# Altium footprint library RUMBA_V21.PcbLib: 41 footprints (part 2 of 3)
Each footprint in its own frame and in the unit in brackets; x right, y up, seen from the top. Pads: shape width x height; smd on the part's side, far side on the other; paste and mask are expansions set on the pad; w line width, h text height; cw(c..) or ccw(c..) is an arc to the next point about the centre after c.
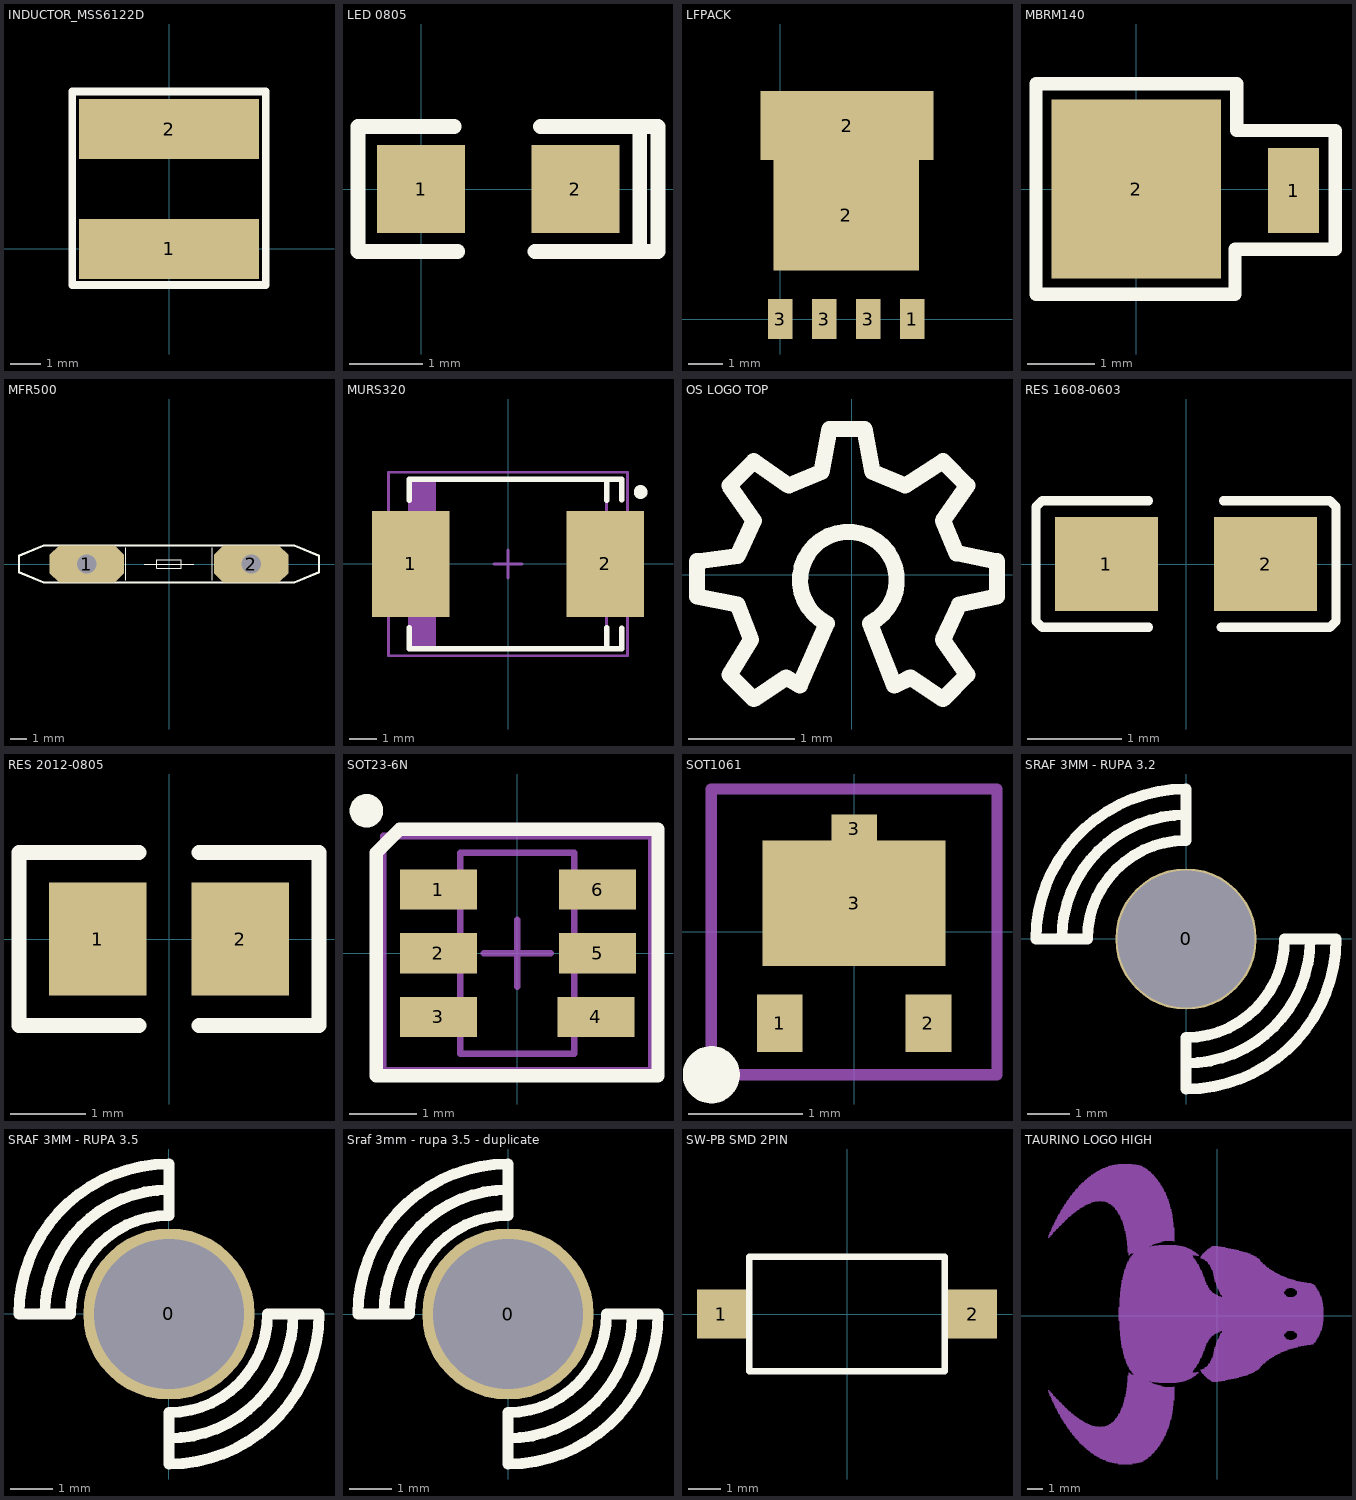
[diagram p1: the footprints below, top view; thin cyan lines are the x and y axes]

## INDUCTOR_MSS6122D [mm]
pads (2):
  rect 6x2 smd: 1(0,0) 2(0,4)
Top Overlay:
  lines w0.254: -3.225,-1.2 -3.225,5.25 3.225,5.25 3.225,-1.2 -3.225,-1.2

## LED 0805 [mm]
pads (2):
  rect 1.2x1.2 smd: 1(0,0) 2(2.1,0)
Top Overlay:
  lines w0.2: 0.45,0.85 -0.86,0.85 -0.86,-0.85 0.5,-0.85 ; 1.55,-0.85 3.225,-0.85 3.225,0.85 1.625,0.85 ; 2.975,-0.85 2.975,0.85
3D body "LED0603red.STEP": height 0.65, standoff 0, extent 0.175,-0.4 1.875,0.4

## LFPACK [mm]
pads (6):
  rect 0.7x1.15 smd: 1(3.81,0) 3(0,0) 3(1.27,0) 3(2.54,0)
  rect 4.2x3.2 smd: 2(1.905,3)
  rect 5x2 smd: 2(1.93,5.588)
3D body "lfpak.STEP": height 1.1, standoff -0.01, extent -0.58,-0.332 4.42,6.137

## MBRM140 [mm]
pads (2):
  rect 0.762x1.27 smd: 1(2.351,-0.025)
  rect 2.54x2.67 smd: 2(0,0)
Top Overlay:
  lines w0.2: -1.5,-1.575 -1.5,1.575 1.5,1.575 1.5,0.875 2.975,0.875 2.975,-0.9 1.475,-0.9 1.475,-1.575 -1.5,-1.575

## MFR500 [mm]
pads (2):
  oct 4.6x2.3 hole 1.2: 1(-5.08,0) 2(5.08,0)
Top Overlay:
  lines w0.051: -2.667,-1.016 -2.667,1.016 ; -1.524,0 1.524,0 ; 2.667,-1.016 2.667,1.016 ; -0.762,-0.254 0.762,-0.254 0.762,0.254 -0.762,0.254 -0.762,-0.254
  lines w0.152: -9.271,-0.508 -7.747,-1.143 7.747,-1.143 9.271,-0.508 9.271,0.508 7.747,1.143 -7.747,1.143 -9.271,0.508 -9.271,-0.508

## MURS320 [mm]
pads (2):
  rect 2.8x3.8 smd: 1(-3.5,0) 2(3.5,0)
Top Overlay:
  circle w0.25: c4.777,2.591 r0.125
  lines w0.2: -3.55,-2.3 -3.55,-3.05 3.55,-3.05 ; -3.55,2.3 -3.55,3.05 3.55,3.05 ; 3.55,-2.3 3.55,-3.05 ; 3.55,2.3 3.55,3.05 ; 4.087,-2.313 4.087,-3.05 3.55,-3.05 ; 4.087,3.05 3.55,3.05 ; 4.089,2.311 4.089,3.048
Mechanical 13:
  rectangle: -3.55,-3.05 -2.595,3.05
  lines w0.1: -3.55,-3.05 3.55,-3.05 3.55,3.05 -3.55,3.05 -3.55,-3.05
Mechanical 15:
  lines w0.1: -0.5,0 0.5,0 ; 0,-0.5 0,0.5 ; -4.3,-3.3 4.3,-3.3 4.3,3.3 -4.3,3.3 -4.3,-3.3
3D body: height 2.13, standoff 0, extent -3.55,-3.05 3.55,3.05

## OS LOGO TOP [mm]
Top Overlay:
  lines w0.152: -1.452,-0.203 -1.452,0.127 -1.071,0.178 -0.919,0.508 -1.147,0.838 -0.919,1.067 -0.589,0.838 -0.284,0.965 -0.208,1.372 0.123,1.372 0.199,0.965 0.504,0.838 0.859,1.067 1.088,0.838 0.859,0.508 0.986,0.203 1.367,0.127 1.367,-0.203 1.012,-0.279 0.859,-0.61 1.088,-0.94 0.859,-1.168 0.554,-0.965 0.402,-1.041 0.173,-0.457 ccw(c-0.03,-0.051) -0.233,-0.457 -0.487,-1.041 -0.614,-0.965 -0.919,-1.168 -1.147,-0.94 -0.944,-0.61 -1.071,-0.279 -1.452,-0.203

## RES 1608-0603 [mm]
pads (2):
  rect 1.1x1 smd: 1(-0.85,0) 2(0.85,0)
Top Overlay:
  lines w0.1: -0.4,-0.675 -1.535,-0.675 -1.6,-0.61 -1.6,0.61 -1.535,0.675 -0.4,0.675 ; 0.375,-0.675 1.535,-0.675 1.6,-0.61 1.6,0.61 1.535,0.675 0.4,0.675
3D body "res0603.STEP": height 0.4, standoff 0, extent -0.775,-0.375 0.825,0.425

## RES 2012-0805 [mm]
pads (2):
  rect 1.3x1.5 smd: 1(-0.95,0) 2(0.95,0)
Top Overlay:
  lines w0.2: -0.4,-1.15 -2,-1.15 -2,1.15 -0.4,1.15 ; 0.4,-1.15 2,-1.15 2,1.15 0.4,1.15
3D body "res0805.STEP": height 1.5, standoff 0, extent -1,-0.625 1,0.625

## SOT23-6N [mm]
pads (6):
  rect 1.15x0.6 smd: 1(-1.175,0.95) 2(-1.175,0) 3(-1.175,-0.95) 4(1.175,-0.95) 5(1.2,0) 6(1.2,0.95)
Top Overlay:
  circle w0.25: c-2.25,2.125 r0.125
  lines w0.2: -2.1,-1.825 -2.1,0.3 -2.1,1.5 -1.75,1.85 -0.75,1.85 2.1,1.85 2.1,-1.825 -2.1,-1.825
Mechanical 13:
  lines w0.1: -0.85,-1.5 -0.85,1.5 0.85,1.5 0.85,-1.5 -0.85,-1.5
Mechanical 15:
  lines w0.1: -0.5,0 0.5,0 ; 0,-0.5 0,0.5 ; -2,-1.75 -2,1.75 2,1.75 2,-1.75 -2,-1.75
3D body "SOT23-6.STEP": height 1.44, standoff -0.01, extent -1.4,-1.45 1.4,1.45

## SOT1061 [mm]
height 0.65
pads (4):
  rect 0.4x0.5 smd: 1(-0.65,-0.8) 2(0.65,-0.8)
  rect 1.6x1.1 smd: 3(0,0.25)
  rect 0.4x0.25 smd: 3(0,0.9)
Top Overlay:
  circle w0.25: c-1.25,-1.25 r0.125
Mechanical 15:
  lines w0.1: -1.25,-1.25 1.25,-1.25 1.25,1.25 -1.25,1.25 -1.25,-1.25
3D body "User Library-SOT1061.step": height 0.65, standoff 0, extent -1,-1.001 1,1.001

## SRAF 3MM - RUPA 3.2 [mm]
pads (1):
  round 3.3 hole 3.2: 0(0,0)
Top Overlay:
  lines w0.254: -2.9,0 cw(c0,0) 0,2.9 ; 0,-2.9 ccw(c0,0) 2.9,0 ; -3.5,0 cw(c0,0) 0,3.5 0,2.3 ccw(c0,0) -2.3,0 -3.5,0 ; 0,-3.5 ccw(c0,0) 3.5,0 2.3,0 cw(c0,0) 0,-2.3 0,-3.5

## SRAF 3MM - RUPA 3.5 [mm]
pads (1):
  round 4 hole 3.5: 0(0,0)
Top Overlay:
  lines w0.254: -2.9,0 cw(c0,0) 0,2.9 ; 0,-2.9 ccw(c0,0) 2.9,0 ; -3.5,0 cw(c0,0) 0,3.5 0,2.3 ccw(c0,0) -2.3,0 -3.5,0 ; 0,-3.5 ccw(c0,0) 3.5,0 2.3,0 cw(c0,0) 0,-2.3 0,-3.5

## Sraf 3mm - rupa 3.5 - duplicate [mm]
pads (1):
  round 4 hole 3.5: 0(0,0)
Top Overlay:
  lines w0.254: -2.9,0 cw(c0,0) 0,2.9 ; 0,-2.9 ccw(c0,0) 2.9,0 ; -3.5,0 cw(c0,0) 0,3.5 0,2.3 ccw(c0,0) -2.3,0 -3.5,0 ; 0,-3.5 ccw(c0,0) 3.5,0 2.3,0 cw(c0,0) 0,-2.3 0,-3.5

## SW-PB SMD 2PIN [mm]
pads (2):
  rect 1.5x1.5 smd: 1(-3.85,0) 2(3.85,0)
Top Overlay:
  lines w0.2: -3,-1.75 -3,1.75 3,1.75 3,-1.75 -3,-1.75
3D body "Pulsador.stp": height 4.3, standoff 0, extent -4,-1.75 4,1.75

## TAURINO LOGO HIGH [mm]
Bottom Solder:
  drawing of 860 lines, arcs and shapes, not listed